# EAGLE library part DISPLAY (library traktor)
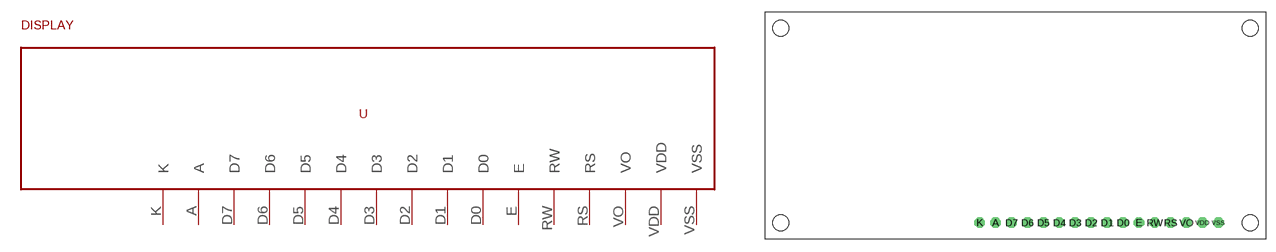
[diagram p1: symbol with the pads of DISPLAY; footprint DISPLAY]

Designator prefix -

## DISPLAY  [DISPLAY]
A  A
D0  D0
D1  D1
D2  D2
D3  D3
D4  D4
D5  D5
D6  D6
D7  D7
E  E
K  K
RS  RS
RW  RW
VDD  VDD
VO  VO
VSS  VSS

## Footprint DISPLAY (pad centres in mm)
drill 0.8 pad 1.676 octagon: A -2.54,-17.78; D0 17.78,-17.78; D1 15.24,-17.78; D2 12.7,-17.78; D3 10.16,-17.78; D4 7.62,-17.78; D5 5.08,-17.78; D6 2.54,-17.78; D7 0,-17.78; E 20.32,-17.78; K -5.08,-17.78; RS 25.4,-17.78; RW 22.86,-17.78; VDD 30.48,-17.78; VO 27.94,-17.78; VSS 33.02,-17.78